# Altium footprint library Hello.PcbLib: 234 footprints (part 7 of 15)
Each footprint in its own frame and in the unit in brackets; x right, y up, seen from the top. Pads: shape width x height; smd on the part's side, far side on the other; paste and mask are expansions set on the pad; w line width, h text height; cw(c..) or ccw(c..) is an arc to the next point about the centre after c.
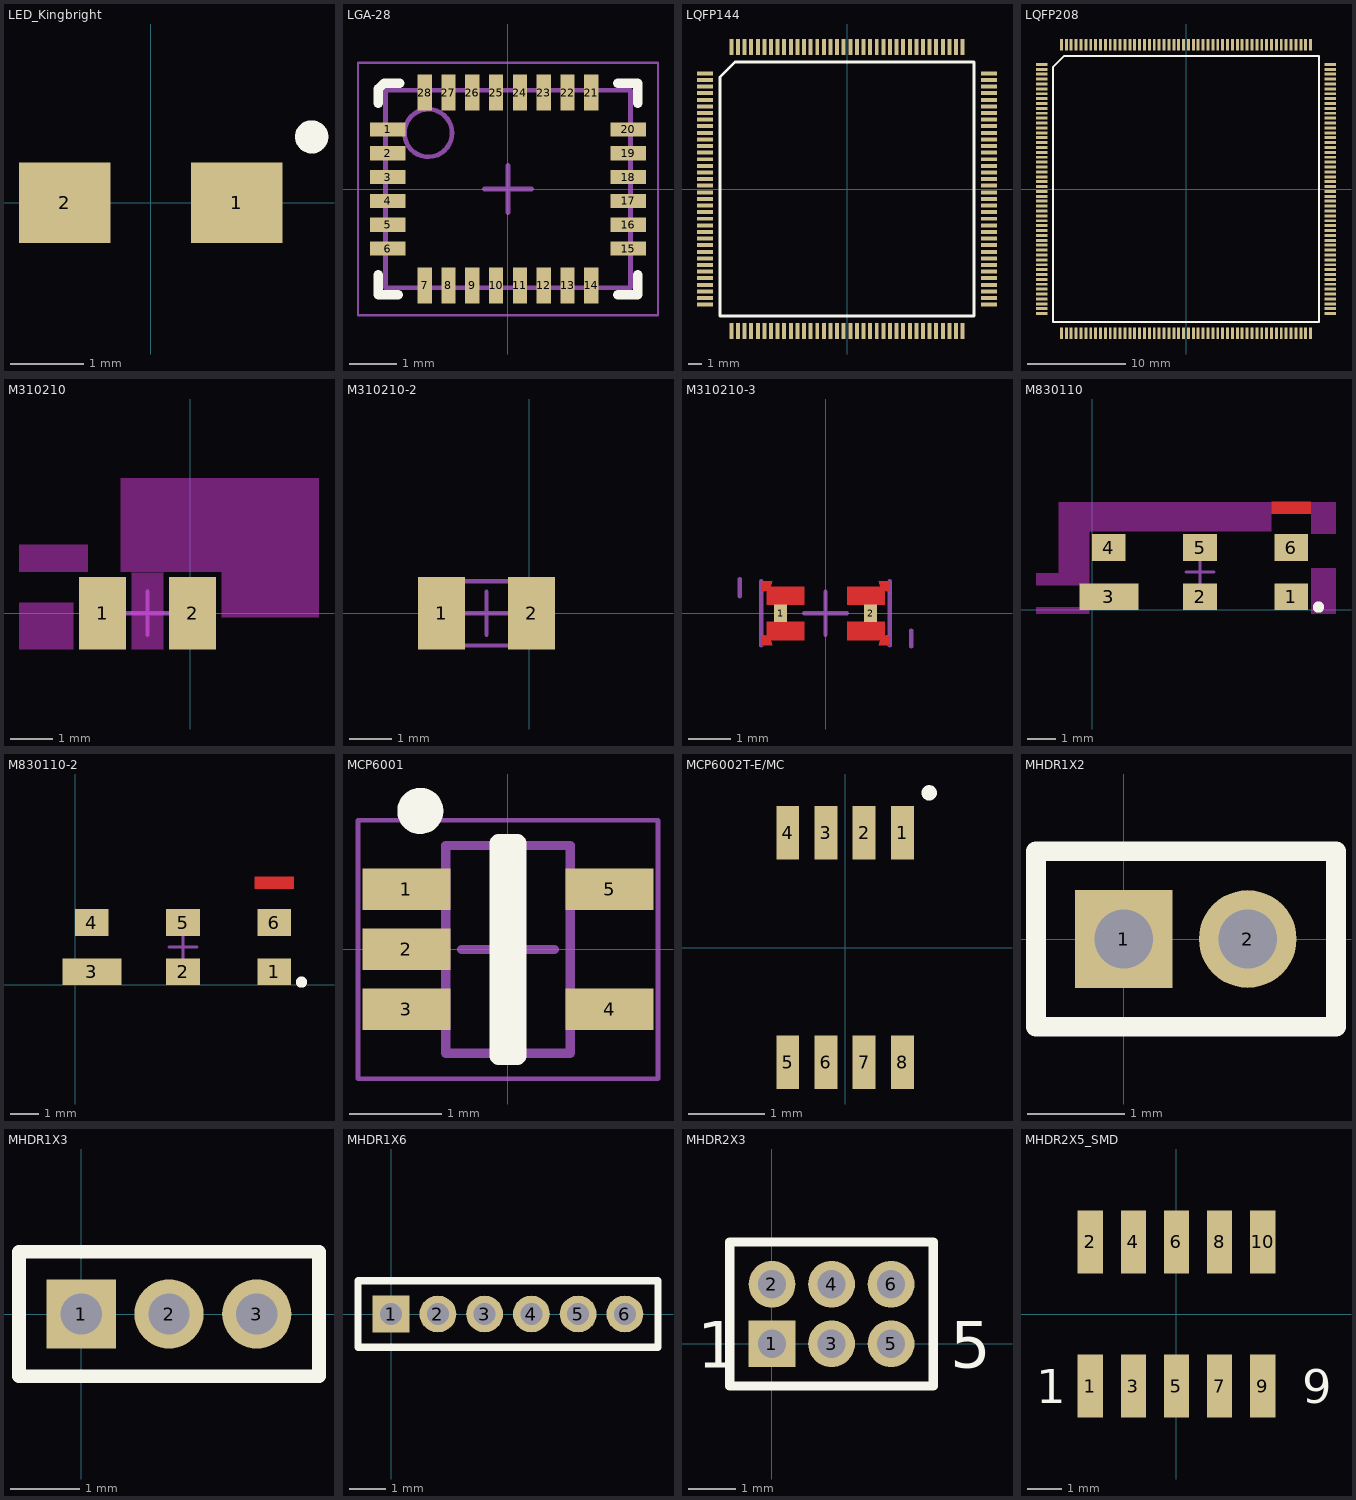
[diagram p6: the footprints below, top view; thin cyan lines are the x and y axes]

## LED_Kingbright [mm]
pads (2):
  rect 1.25x1.1 smd: 1(1.175,0) 2(-1.175,0)
Top Overlay:
  circle w0.254: c2.2,0.9 r0.1

## LGA-28 [mm] "LGA, 28-Leads, Body 4.00x5.00mm, Pitch 0.50mm, IPC Medium Density"
height 1.1
pads (28):
  rect 0.75x0.3 smd mask+0.08: 1(-2.525,1.25) 2(-2.525,0.75) 3(-2.525,0.25) 4(-2.525,-0.25) 5(-2.525,-0.75) 6(-2.525,-1.25) 15(2.525,-1.25) 16(2.525,-0.75) 17(2.525,-0.25) 18(2.525,0.25) 19(2.525,0.75) 20(2.525,1.25)
  rect 0.3x0.75 smd mask+0.08: 7(-1.75,-2.025) 8(-1.25,-2.025) 9(-0.75,-2.025) 10(-0.25,-2.025) 11(0.25,-2.025) 12(0.75,-2.025) 13(1.25,-2.025) 14(1.75,-2.025) 21(1.75,2.025) 22(1.25,2.025) 23(0.75,2.025) 24(0.25,2.025) 25(-0.25,2.025) 26(-0.75,2.025) 27(-1.25,2.025) 28(-1.75,2.025)
Top Overlay:
  lines w0.2: -2.725,-1.8 -2.725,-2.225 -2.3,-2.225 ; -2.725,1.8 -2.725,2.1 -2.6,2.225 -2.275,2.225 ; 2.3,-2.225 2.725,-2.225 2.725,-1.8 ; 2.3,2.225 2.725,2.225 2.725,1.8
Mechanical 13:
  circle w0.1: c-1.675,1.175 r0.5
  lines w0.1: -2.575,-2.075 -2.575,2.075 2.575,2.075 2.575,-2.075 -2.575,-2.075
Mechanical 15:
  lines w0.05: -3.15,-2.65 -3.15,2.65 3.15,2.65 3.15,-2.65 -3.15,-2.65
  lines w0.1: -0.5,0 0.5,0 ; 0,-0.5 0,0.5
3D body: height 1.1, standoff 0.2, extent -2.575,-2.075 2.575,2.075

## LQFP144 [mm] "144 pin LQFP package"
height 1.6
pads (144):
  rect 0.3x1.2 smd: 1(-8.75,-10.75) 2(-8.25,-10.75) 3(-7.75,-10.75) 4(-7.25,-10.75) 5(-6.75,-10.75) 6(-6.25,-10.75) 7(-5.75,-10.75) 8(-5.25,-10.75) 9(-4.75,-10.75) 10(-4.25,-10.75) 11(-3.75,-10.75) 12(-3.25,-10.75) 13(-2.75,-10.75) 14(-2.25,-10.75) 15(-1.75,-10.75) 16(-1.25,-10.75) 17(-0.75,-10.75) 18(-0.25,-10.75) 19(0.25,-10.75) 20(0.75,-10.75) 21(1.25,-10.75) 22(1.75,-10.75) 23(2.25,-10.75) 24(2.75,-10.75) 25(3.25,-10.75) 26(3.75,-10.75) 27(4.25,-10.75) 28(4.75,-10.75) 29(5.25,-10.75) 30(5.75,-10.75) 31(6.25,-10.75) 32(6.75,-10.75) 33(7.25,-10.75) 34(7.75,-10.75) 35(8.25,-10.75) 36(8.75,-10.75) 73(8.75,10.75) 74(8.25,10.75) 75(7.75,10.75) 76(7.25,10.75) 77(6.75,10.75) 78(6.25,10.75) 79(5.75,10.75) 80(5.25,10.75) 81(4.75,10.75) 82(4.25,10.75) 83(3.75,10.75) 84(3.25,10.75) 85(2.75,10.75) 86(2.25,10.75) 87(1.75,10.75) 88(1.25,10.75) 89(0.75,10.75) 90(0.25,10.75) 91(-0.25,10.75) 92(-0.75,10.75) 93(-1.25,10.75) 94(-1.75,10.75) 95(-2.25,10.75) 96(-2.75,10.75) 97(-3.25,10.75) 98(-3.75,10.75) 99(-4.25,10.75) 100(-4.75,10.75) 101(-5.25,10.75) 102(-5.75,10.75) 103(-6.25,10.75) 104(-6.75,10.75) 105(-7.25,10.75) 106(-7.75,10.75) 107(-8.25,10.75) 108(-8.75,10.75)
  rect 1.2x0.3 smd: 37(10.75,-8.75) 38(10.75,-8.25) 39(10.75,-7.75) 40(10.75,-7.25) 41(10.75,-6.75) 42(10.75,-6.25) 43(10.75,-5.75) 44(10.75,-5.25) 45(10.75,-4.75) 46(10.75,-4.25) 47(10.75,-3.75) 48(10.75,-3.25) 49(10.75,-2.75) 50(10.75,-2.25) 51(10.75,-1.75) 52(10.75,-1.25) 53(10.75,-0.75) 54(10.75,-0.25) 55(10.75,0.25) 56(10.75,0.75) 57(10.75,1.25) 58(10.75,1.75) 59(10.75,2.25) 60(10.75,2.75) 61(10.75,3.25) 62(10.75,3.75) 63(10.75,4.25) 64(10.75,4.75) 65(10.75,5.25) 66(10.75,5.75) 67(10.75,6.25) 68(10.75,6.75) 69(10.75,7.25) 70(10.75,7.75) 71(10.75,8.25) 72(10.75,8.75) 109(-10.75,8.75) 110(-10.75,8.25) 111(-10.75,7.75) 112(-10.75,7.25) 113(-10.75,6.75) 114(-10.75,6.25) 115(-10.75,5.75) 116(-10.75,5.25) 117(-10.75,4.75) 118(-10.75,4.25) 119(-10.75,3.75) 120(-10.75,3.25) 121(-10.75,2.75) 122(-10.75,2.25) 123(-10.75,1.75) 124(-10.75,1.25) 125(-10.75,0.75) 126(-10.75,0.25) 127(-10.75,-0.25) 128(-10.75,-0.75) 129(-10.75,-1.25) 130(-10.75,-1.75) 131(-10.75,-2.25) 132(-10.75,-2.75) 133(-10.75,-3.25) 134(-10.75,-3.75) 135(-10.75,-4.25) 136(-10.75,-4.75) 137(-10.75,-5.25) 138(-10.75,-5.75) 139(-10.75,-6.25) 140(-10.75,-6.75) 141(-10.75,-7.25) 142(-10.75,-7.75) 143(-10.75,-8.25) 144(-10.75,-8.75)
Top Overlay:
  lines w0.2: -9.615,-9.615 9.615,-9.615 9.615,9.615 -8.48,9.615 -9.615,8.48 -9.615,-9.615
3D body: height 1.6, standoff 0.15, extent -10.575,-10.525 10.525,10.575

## LQFP208 [mm] "208 pin, QFP package"
height 1.6
pads (208):
  rect 1.2x0.3 smd: 1(-14.75,12.75) 2(-14.75,12.25) 3(-14.75,11.75) 4(-14.75,11.25) 5(-14.75,10.75) 6(-14.75,10.25) 7(-14.75,9.75) 8(-14.75,9.25) 9(-14.75,8.75) 10(-14.75,8.25) 11(-14.75,7.75) 12(-14.75,7.25) 13(-14.75,6.75) 14(-14.75,6.25) 15(-14.75,5.75) 16(-14.75,5.25) 17(-14.75,4.75) 18(-14.75,4.25) 19(-14.75,3.75) 20(-14.75,3.25) 21(-14.75,2.75) 22(-14.75,2.25) 23(-14.75,1.75) 24(-14.75,1.25) 25(-14.75,0.75) 26(-14.75,0.25) 27(-14.75,-0.25) 28(-14.75,-0.75) 29(-14.75,-1.25) 30(-14.75,-1.75) 31(-14.75,-2.25) 32(-14.75,-2.75) 33(-14.75,-3.25) 34(-14.75,-3.75) 35(-14.75,-4.25) 36(-14.75,-4.75) 37(-14.75,-5.25) 38(-14.75,-5.75) 39(-14.75,-6.25) 40(-14.75,-6.75) 41(-14.75,-7.25) 42(-14.75,-7.75) 43(-14.75,-8.25) 44(-14.75,-8.75) 45(-14.75,-9.25) 46(-14.75,-9.75) 47(-14.75,-10.25) 48(-14.75,-10.75) 49(-14.75,-11.25) 50(-14.75,-11.75) 51(-14.75,-12.25) 52(-14.75,-12.75) 105(14.75,-12.75) 106(14.75,-12.25) 107(14.75,-11.75) 108(14.75,-11.25) 109(14.75,-10.75) 110(14.75,-10.25) 111(14.75,-9.75) 112(14.75,-9.25) 113(14.75,-8.75) 114(14.75,-8.25) 115(14.75,-7.75) 116(14.75,-7.25) 117(14.75,-6.75) 118(14.75,-6.25) 119(14.75,-5.75) 120(14.75,-5.25) 121(14.75,-4.75) 122(14.75,-4.25) 123(14.75,-3.75) 124(14.75,-3.25) 125(14.75,-2.75) 126(14.75,-2.25) 127(14.75,-1.75) 128(14.75,-1.25) 129(14.75,-0.75) 130(14.75,-0.25) 131(14.75,0.25) 132(14.75,0.75) 133(14.75,1.25) 134(14.75,1.75) 135(14.75,2.25) 136(14.75,2.75) 137(14.75,3.25) 138(14.75,3.75) 139(14.75,4.25) 140(14.75,4.75) 141(14.75,5.25) 142(14.75,5.75) 143(14.75,6.25) 144(14.75,6.75) 145(14.75,7.25) 146(14.75,7.75) 147(14.75,8.25) 148(14.75,8.75) 149(14.75,9.25) 150(14.75,9.75) 151(14.75,10.25) 152(14.75,10.75) 153(14.75,11.25) 154(14.75,11.75) 155(14.75,12.25) 156(14.75,12.75)
  rect 0.3x1.2 smd: 53(-12.75,-14.75) 54(-12.25,-14.75) 55(-11.75,-14.75) 56(-11.25,-14.75) 57(-10.75,-14.75) 58(-10.25,-14.75) 59(-9.75,-14.75) 60(-9.25,-14.75) 61(-8.75,-14.75) 62(-8.25,-14.75) 63(-7.75,-14.75) 64(-7.25,-14.75) 65(-6.75,-14.75) 66(-6.25,-14.75) 67(-5.75,-14.75) 68(-5.25,-14.75) 69(-4.75,-14.75) 70(-4.25,-14.75) 71(-3.75,-14.75) 72(-3.25,-14.75) 73(-2.75,-14.75) 74(-2.25,-14.75) 75(-1.75,-14.75) 76(-1.25,-14.75) 77(-0.75,-14.75) 78(-0.25,-14.75) 79(0.25,-14.75) 80(0.75,-14.75) 81(1.25,-14.75) 82(1.75,-14.75) 83(2.25,-14.75) 84(2.75,-14.75) 85(3.25,-14.75) 86(3.75,-14.75) 87(4.25,-14.75) 88(4.75,-14.75) 89(5.25,-14.75) 90(5.75,-14.75) 91(6.25,-14.75) 92(6.75,-14.75) 93(7.25,-14.75) 94(7.75,-14.75) 95(8.25,-14.75) 96(8.75,-14.75) 97(9.25,-14.75) 98(9.75,-14.75) 99(10.25,-14.75) 100(10.75,-14.75) 101(11.25,-14.75) 102(11.75,-14.75) 103(12.25,-14.75) 104(12.75,-14.75) 157(12.75,14.75) 158(12.25,14.75) 159(11.75,14.75) 160(11.25,14.75) 161(10.75,14.75) 162(10.25,14.75) 163(9.75,14.75) 164(9.25,14.75) 165(8.75,14.75) 166(8.25,14.75) 167(7.75,14.75) 168(7.25,14.75) 169(6.75,14.75) 170(6.25,14.75) 171(5.75,14.75) 172(5.25,14.75) 173(4.75,14.75) 174(4.25,14.75) 175(3.75,14.75) 176(3.25,14.75) 177(2.75,14.75) 178(2.25,14.75) 179(1.75,14.75) 180(1.25,14.75) 181(0.75,14.75) 182(0.25,14.75) 183(-0.25,14.75) 184(-0.75,14.75) 185(-1.25,14.75) 186(-1.75,14.75) 187(-2.25,14.75) 188(-2.75,14.75) 189(-3.25,14.75) 190(-3.75,14.75) 191(-4.25,14.75) 192(-4.75,14.75) 193(-5.25,14.75) 194(-5.75,14.75) 195(-6.25,14.75) 196(-6.75,14.75) 197(-7.25,14.75) 198(-7.75,14.75) 199(-8.25,14.75) 200(-8.75,14.75) 201(-9.25,14.75) 202(-9.75,14.75) 203(-10.25,14.75) 204(-10.75,14.75) 205(-11.25,14.75) 206(-11.75,14.75) 207(-12.25,14.75) 208(-12.75,14.75)
Top Overlay:
  lines w0.2: -13.615,-13.615 -13.615,12.48 -12.48,13.615 13.615,13.615 13.615,-13.615 -13.615,-13.615
3D body: height 1.6, standoff 0.15, extent -14.5,-14.45 14.4,14.4

## M310210 [mm] "Savvi M310210 Bluetooth Antenna"
height 1.08
pads (2):
  rect 1.1x1.7 smd mask+0: 1(-2.05,0) 2(0.05,0)
Bottom Overlay:
  circle w0.3: c-2.9,1.225 r0.028
Top Solder:
  rectangle: -0.6,-0.85 0.7,0.95
  rectangle: -2.7,-0.85 -1.4,0.95
Keep-Out Layer:
  region: 3,0.975 0.725,0.975 0.725,-0.1 3,-0.1
  region: -0.625,0.95 -1.375,0.95 -1.375,-0.85 -0.625,-0.85
  region: -2.725,0.25 -4,0.25 -4,-0.85 -2.725,-0.85
  region: -4,0.975 -2.4,0.975 -2.4,1.6 -3.75,1.6 -4,1.6
  region: -1.625,0.975 3,0.975 3,3.15 -1.375,3.15 -1.625,3.15
Mechanical 13:
  lines w0.1: -2.5,-0.75 -2.5,0.75 ; 0.5,-0.75 0.5,0.75
Mechanical 15:
  lines w0.1: -1.5,0 -0.5,0 ; -1,-0.5 -1,0.5
3D body: height 1.08, standoff 0.2, extent -2.5,-0.75 0.5,0.75

## M310210-2 [mm] "Savvi M310210 Bluetooth Antenna without keepouts"
height 1.08
pads (2):
  rect 1.1x1.7 smd mask+0: 1(-2.05,0) 2(0.05,0)
Bottom Overlay:
  circle w0.1: c-2.8,1.075 r0.05
Top Solder:
  rectangle: -0.6,-0.85 0.7,0.95
  rectangle: -2.7,-0.85 -1.4,0.95
Mechanical 13:
  lines w0.1: -2.5,-0.75 -2.5,0.75 0.5,0.75 0.5,-0.75 -2.5,-0.75
Mechanical 15:
  lines w0.1: -1.5,0 -0.5,0 ; -1,-0.5 -1,0.5
Multi-Layer:
  pour cut-out: -4,0.95 -2.4,0.95 -2.4,1.6 -3.75,1.6 -4,1.35
  pour cut-out: -4,0.25 -2.7,0.25 -2.7,-0.85 -4,-0.85
  pour cut-out: -1.625,0.95 -1.4,0.95 -1.4,-0.85 -0.6,-0.85 -0.6,0.95 0.7,0.95 0.7,-0.1 3,-0.1 3,3.15 -1.375,3.15 -1.625,2.9
3D body: height 1.08, standoff 0.2, extent -2.5,-0.75 0.5,0.75

## M310210-3 [mm] "Savvi M310210 Bluetooth Antenna with keepouts"
height 1.08
pads (2):
  rect 0.3x0.4 smd mask+0: 1(-1.05,0) 2(1.05,0)
Top Layer:
  region: 1.375,0.625 0.5,0.625 0.5,0.2 1.375,0.2
  region: 1.5,0.495 1.402,0.515 1.32,0.57 1.265,0.652 1.245,0.75 1.25,0.75 1.5,0.75
  region: 1.5,-0.495 1.402,-0.515 1.32,-0.57 1.265,-0.652 1.245,-0.75 1.25,-0.75 1.5,-0.75
  region: 1.375,-0.625 0.5,-0.625 0.5,-0.2 1.375,-0.2
  region: -1.375,-0.625 -0.5,-0.625 -0.5,-0.2 -1.375,-0.2
  region: -1.5,-0.495 -1.402,-0.515 -1.32,-0.57 -1.265,-0.652 -1.245,-0.75 -1.25,-0.75 -1.5,-0.75
  region: -1.5,0.495 -1.402,0.515 -1.32,0.57 -1.265,0.652 -1.245,0.75 -1.25,0.75 -1.5,0.75
  region: -1.375,0.625 -0.5,0.625 -0.5,0.2 -1.375,0.2
Bottom Overlay:
  circle w0.3: c-1.975,1.287 r0.152
Top Solder:
  region: -3,1.6 -1.4,1.6 -1.4,0.85 -3,0.85
  region: -0.625,3.15 4,3.15 4,0.875 1.725,0.875 -0.625,0.875
  region: 1.725,0.875 4,0.875 4,-0.35 1.725,-0.35
  region: -1.7,0.875 1.725,0.875 1.725,-0.85 -1.7,-0.85
  region: -3,0.35 -1.7,0.35 -1.7,-0.85 -3,-0.85
Mechanical 13:
  lines w0.1: -1.5,-0.75 -1.5,0.75 ; 1.5,-0.75 1.5,0.75
Mechanical 15:
  lines w0.1: -2,0.4 -2,0.8 ; -0.5,0 0.5,0 ; 0,-0.5 0,0.5 ; 2,-0.775 2,-0.4
Multi-Layer:
  pour cut-out: 1.725,0.975 1.725,-0.35 4,-0.35 4,0.975
  pour cut-out: -3,0.35 -3,-0.85 -1.7,-0.85 -1.7,0.35
  pour cut-out: -0.625,0.975 4,0.975 4,3.15 -0.375,3.15 -0.625,3.15
  pour cut-out: -3,0.85 -1.85,0.85 -1.725,0.975 -1.4,0.975 -1.4,1.6 -2.75,1.6 -3,1.6
  pour cut-out: -1.7,0.975 -1.7,-0.85 1.725,-0.85 1.725,0.975
3D body: height 1.08, standoff 0.2, extent -1.5,-0.75 1.5,0.75

## M830110 [mm] "Savvi M830110 3mmx8mm 6pin"
height 1.33
pads (6):
  rect 1.2x0.95 smd: 1(7.1,0.475) 2(3.85,0.475) 4(0.6,2.225) 5(3.85,2.225) 6(7.1,2.225)
  rect 2.1x0.95 smd: 3(0.6,0.475)
Top Layer:
  pour cut-out: 6.4,3.85 6.4,3.425 7.8,3.425 7.8,3.85
Top Overlay:
  circle w0.2: c8.075,0.1 r0.1
Keep-Out Layer:
  rectangle: -2,0.875 -1.2,1.325
  rectangle: -1.2,0.875 -0.1,2.8
  rectangle: -2,-0.15 -0.1,0.1
  rectangle: -1.2,2.8 6.4,3.85
  rectangle: 7.8,2.7 8.7,3.85
  rectangle: 7.8,-0.15 8.7,1.5
Mechanical 15:
  lines w0.1: 3.35,1.35 4.35,1.35 ; 3.85,0.85 3.85,1.85
3D body: height 1.33, standoff 0.1, extent -0.15,-0.15 7.85,2.85

## M830110-2 [mm] "Savvi M830110 3mmx8mm 6pin without keepouts"
height 1.33
pads (6):
  rect 1.2x0.95 smd: 1(7.1,0.475) 2(3.85,0.475) 4(0.6,2.225) 5(3.85,2.225) 6(7.1,2.225)
  rect 2.1x0.95 smd: 3(0.6,0.475)
Top Layer:
  pour cut-out: 6.4,3.85 6.4,3.425 7.8,3.425 7.8,3.85
Top Overlay:
  circle w0.2: c8.075,0.1 r0.1
Mechanical 15:
  lines w0.1: 3.35,1.35 4.35,1.35 ; 3.85,0.85 3.85,1.85
Multi-Layer:
  pour cut-out: -2,1.325 -2,0.875 -0.1,0.875 -0.1,2.8 6.4,2.8 6.4,3.85 -1.2,3.85 -1.2,1.325
  pour cut-out: 7.8,3.85 8.7,3.85 8.7,2.7 7.8,2.7
  pour cut-out: 7.8,1.5 8.7,1.5 8.7,-0.15 7.8,-0.15
  pour cut-out: -2,0.1 -2,-0.15 -0.1,-0.15 -0.1,0.1
3D body: height 1.33, standoff 0.1, extent -0.15,-0.15 7.85,2.85

## MCP6001 [mm] "SOT23, 5-Leads, Body 2.03x2.10mm, Pitch 0.65mm, IPC Medium Density"
height 1.1
pads (5):
  rect 0.95x0.45 smd mask+0.08: 1(-1.1,0.65) 2(-1.1,0) 3(-1.1,-0.65) 4(1.1,-0.65) 5(1.1,0.65)
Top Overlay:
  circle w0.25: c-0.95,1.5 r0.125
  lines w0.2: -0.1,-1.15 0.1,-1.15 0.1,1.15 -0.1,1.15 -0.1,-1.15
Mechanical 13:
  lines w0.1: -0.675,-1.125 -0.675,1.125 0.675,1.125 0.675,-1.125 -0.675,-1.125
Mechanical 15:
  lines w0.05: -1.625,-1.4 -1.625,1.4 1.625,1.4 1.625,-1.4 -1.625,-1.4
  lines w0.1: -0.5,0 0.5,0 ; 0,-0.5 0,0.5
3D body: height 1.1, standoff 0, extent -0.675,-1.125 0.675,1.125

## MCP6002T-E/MC [mm] "Microchip DFN, 8-Leads, Body 3.00x2.00mm, Pitch 0.50mm, IPC Medium Density"
height 1
pads (8):
  rect 0.3x0.7 smd: 1(0.75,1.5) 2(0.25,1.5) 3(-0.25,1.5) 4(-0.75,1.5) 5(-0.75,-1.5) 6(-0.25,-1.5) 7(0.25,-1.5) 8(0.75,-1.5)
Top Overlay:
  circle w0.1: c1.1,2.025 r0.05
3D body: height 1, standoff 0, extent -1,-1.5 1,1.5

## MHDR1X2 [mm] "Connector; Header; 2 Position"
pads (2):
  rect 1x1 hole 0.6: 1(0,0)
  round 1 hole 0.6: 2(1.27,0)
Top Overlay:
  lines w0.2: -0.9,-0.9 -0.9,0.9 2.175,0.9 2.175,-0.9 -0.9,-0.9

## MHDR1X3 [mm] "Connector; Header; 3 Position"
pads (3):
  rect 1x1 hole 0.6: 1(0,0)
  round 1 hole 0.6: 2(1.27,0) 3(2.54,0)
Top Overlay:
  lines w0.2: -0.9,-0.9 3.44,-0.9 3.44,0.9 -0.9,0.9 -0.9,-0.9

## MHDR1X6 [mm] "Connector; Header; 6 Position"
pads (6):
  rect 1x1 hole 0.6: 1(0,0)
  round 1 hole 0.6: 2(1.27,0) 3(2.54,0) 4(3.81,0) 5(5.08,0) 6(6.35,0)
Top Overlay:
  lines w0.2: -0.9,-0.9 7.25,-0.9 7.25,0.9 -0.9,0.9 -0.9,-0.9

## MHDR2X3 [mm] "Connector; Header; 3x2 Position"
pads (6):
  rect 1x1 hole 0.6: 1(0,0)
  round 1 hole 0.6: 2(0,1.27) 3(1.27,0) 4(1.27,1.27) 5(2.54,0) 6(2.54,1.27)
Top Overlay:
  lines w0.2: -0.9,-0.9 -0.9,2.17 3.44,2.17 3.44,-0.9 -0.9,-0.9
  text "5" at 3.8,-0.508 h1
  text "1" at -1.6,-0.508 h1

## MHDR2X5_SMD [mm] "Connector; Header; 5x2 Position SMD"
pads (10):
  rect 0.74x1.85 smd: 1(-2.54,-2.125) 2(-2.54,2.125) 3(-1.27,-2.125) 4(-1.27,2.125) 5(0,-2.125) 6(0,2.125) 7(1.27,-2.125) 8(1.27,2.125) 9(2.54,-2.125) 10(2.54,2.125)
Top Overlay:
  text "1" at -4.14,-2.633 h1
  text "9" at 3.7,-2.625 h1
3D body: height 6.3, standoff -0.05, extent -3.38,-2.85 3.38,2.85